# EAGLE library part 7PIN (library te_1mm_connector)
DIGIKEY A99960CT-ND
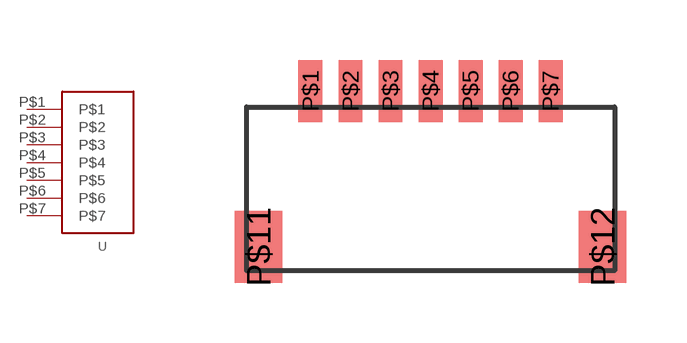
[diagram p0: symbol with the pads of 7PIN; footprint 7PIN]

Designator prefix -

## 7PIN  [7PIN]
P$1  P$1
P$2  P$2
P$3  P$3
P$4  P$4
P$5  P$5
P$6  P$6
P$7  P$7

## Footprint 7PIN (pad centres in mm)
smd 0.6 x 1.55: P$1 -3,0.24; P$2 -2,0.24; P$3 -1,0.24; P$4 0,0.24; P$5 1,0.24; P$6 2,0.24; P$7 3,0.24
smd 1.2 x 1.8: P$11 -4.3,-3.66; P$12 4.3,-3.66